# Altium footprint library LoRa.PcbLib: 1 footprints
Each footprint in its own frame and in the unit in brackets; x right, y up, seen from the top. Pads: shape width x height; smd on the part's side, far side on the other; paste and mask are expansions set on the pad; w line width, h text height; cw(c..) or ccw(c..) is an arc to the next point about the centre after c.
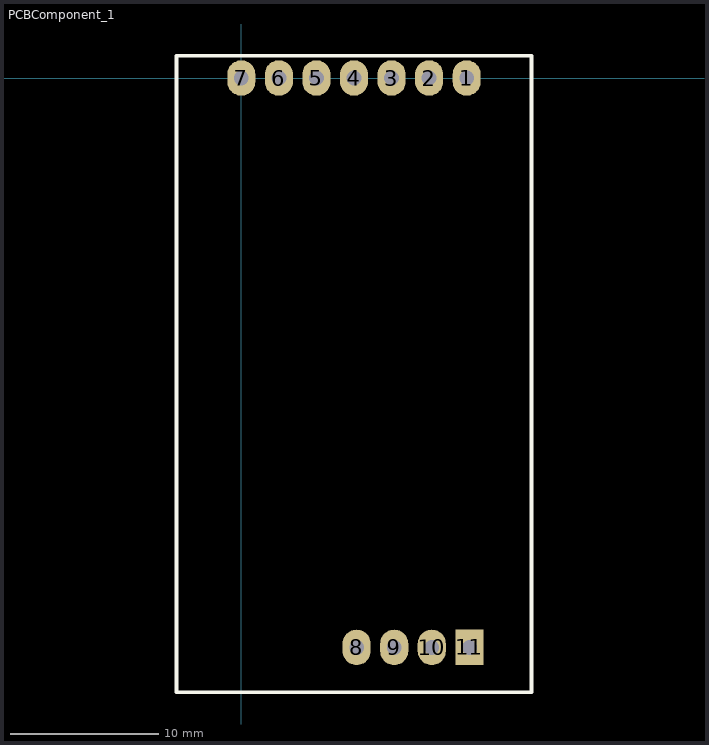
[diagram p0: the footprint, top view; thin cyan lines are the x and y axes]

## PCBComponent_1 [mm]
pads (11):
  oval 1.9x2.4 hole 1: 1(15.24,0) 2(12.7,0) 3(10.16,0) 4(7.62,0) 5(5.08,0) 6(2.54,0) 7(0,0) 8(7.8,-38.5) 9(10.34,-38.5) 10(12.88,-38.5)
  rect 1.9x2.4 hole 1: 11(15.42,-38.5)
Top Overlay:
  lines w0.254: -4.38,-41.529 19.62,-41.529 ; -4.38,-41.5 -4.38,1.5 19.62,1.5 19.62,-41.5
3D body "lora e22.STEP": height 7.45, standoff 0.95, extent -4.253,-53.976 19.747,1.524